# EAGLE library part 50224-020 (library con-aces-50224-series)
ACES CONNECTORS 50224 SERIES Aces Connectors 50224 <https://www.acesconn.com/tw/series/50224-xxxxx-xxx/3165>
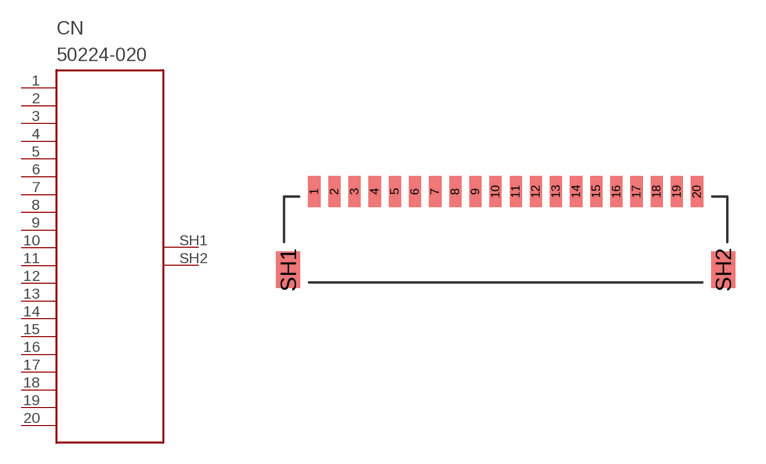
[diagram p16: symbol with the pads of 50224-020; footprint 50224-020]

Designator prefix CN

## 50224-020  [50224-020]
1  1
2  2
3  3
4  4
5  5
6  6
7  7
8  8
9  9
10  10
11  11
12  12
13  13
14  14
15  15
16  16
17  17
18  18
19  19
20  20
SH1  SH1
SH2  SH2

## Footprint 50224-020 (pad centres in mm)
smd 0.6 x 1.55: 1 -9.5,0; 2 -8.5,0; 3 -7.5,0; 4 -6.5,0; 5 -5.5,0; 6 -4.5,0; 7 -3.5,0; 8 -2.5,0; 9 -1.5,0; 10 -0.5,0; 11 0.5,0; 12 1.5,0; 13 2.5,0; 14 3.5,0; 15 4.5,0; 16 5.5,0; 17 6.5,0; 18 7.5,0; 19 8.5,0; 20 9.5,0
smd 1.2 x 1.8: SH1 -10.8,-3.875; SH2 10.8,-3.875